# Altium footprint library MX614.PcbLib: 3 footprints
Each footprint in its own frame and in the unit in brackets; x right, y up, seen from the top. Pads: shape width x height; smd on the part's side, far side on the other; paste and mask are expansions set on the pad; w line width, h text height; cw(c..) or ccw(c..) is an arc to the next point about the centre after c.
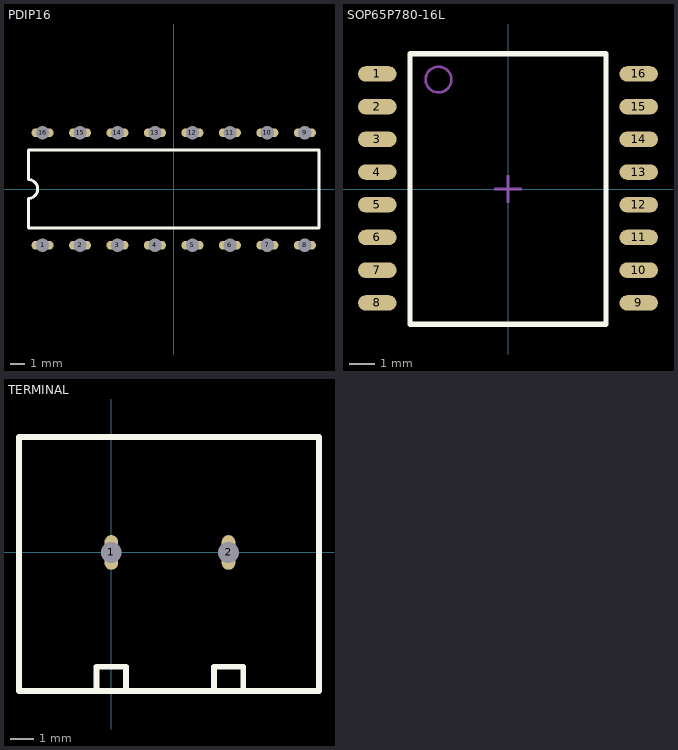
[diagram p0: the footprints below, top view; thin cyan lines are the x and y axes]

## PDIP16 [mm] "DIP; 16 Leads; Row Spacing 7.62 mm; Pitch 2.54 mm"
height 5.34
pads (16):
  oval 1.5x0.6 hole 0.9: 1(-8.89,-3.81) 2(-6.35,-3.81) 3(-3.81,-3.81) 4(-1.27,-3.81) 5(1.27,-3.81) 6(3.81,-3.81) 7(6.35,-3.81) 8(8.89,-3.81) 9(8.89,3.81) 10(6.35,3.81) 11(3.81,3.81) 12(1.27,3.81) 13(-1.27,3.81) 14(-3.81,3.81) 15(-6.35,3.81) 16(-8.89,3.81)
Top Overlay:
  lines w0.2: -9.85,-2.65 -9.85,-0.635 ccw(c-9.85,0) -9.85,0.635 -9.85,2.65 9.85,2.65 9.85,-2.65 -9.85,-2.65

## SOP65P780-16L [mm] "SOP, 16-Leads, Body 6.2x5.3mm, Pitch 0.65mm, IPC High Density"
height 2
pads (16):
  oval 1.5x0.6 smd: 1(-5.075,4.468) 2(-5.075,3.198) 3(-5.075,1.928) 4(-5.075,0.658) 5(-5.075,-0.612) 6(-5.075,-1.882) 7(-5.075,-3.152) 8(-5.075,-4.425) 9(5.075,-4.425) 10(5.075,-3.152) 11(5.075,-1.882) 12(5.075,-0.612) 13(5.075,0.658) 14(5.075,1.928) 15(5.075,3.198) 16(5.075,4.468)
Top Overlay:
  lines w0.2: -3.8,-5.25 -3.8,5.25 3.8,5.25 3.8,-5.25 -3.8,-5.25
Mechanical 13:
  circle w0.1: c-2.7,4.25 r0.5
Mechanical 15:
  lines w0.1: -0.5,0 0.5,0 ; 0,-0.5 0,0.5

## TERMINAL [mm] "Connector; Header; 2 Position"
pads (2):
  oval 0.6x1.5 hole 0.9: 1(0,0) 2(5.08,0)
Top Overlay:
  lines w0.254: -0.635,-5.842 -0.635,-4.953 0.635,-4.953 0.635,-5.842 ; 4.445,-5.842 4.445,-4.953 5.715,-4.953 5.715,-5.842 ; -4,-6 -4,5 9,5 9,-6 -4,-6